# Altium footprint library ES1 Series.PcbLib: 8 footprints
Each footprint in its own frame and in the unit in brackets; x right, y up, seen from the top. Pads: shape width x height; smd on the part's side, far side on the other; paste and mask are expansions set on the pad; w line width, h text height; cw(c..) or ccw(c..) is an arc to the next point about the centre after c.
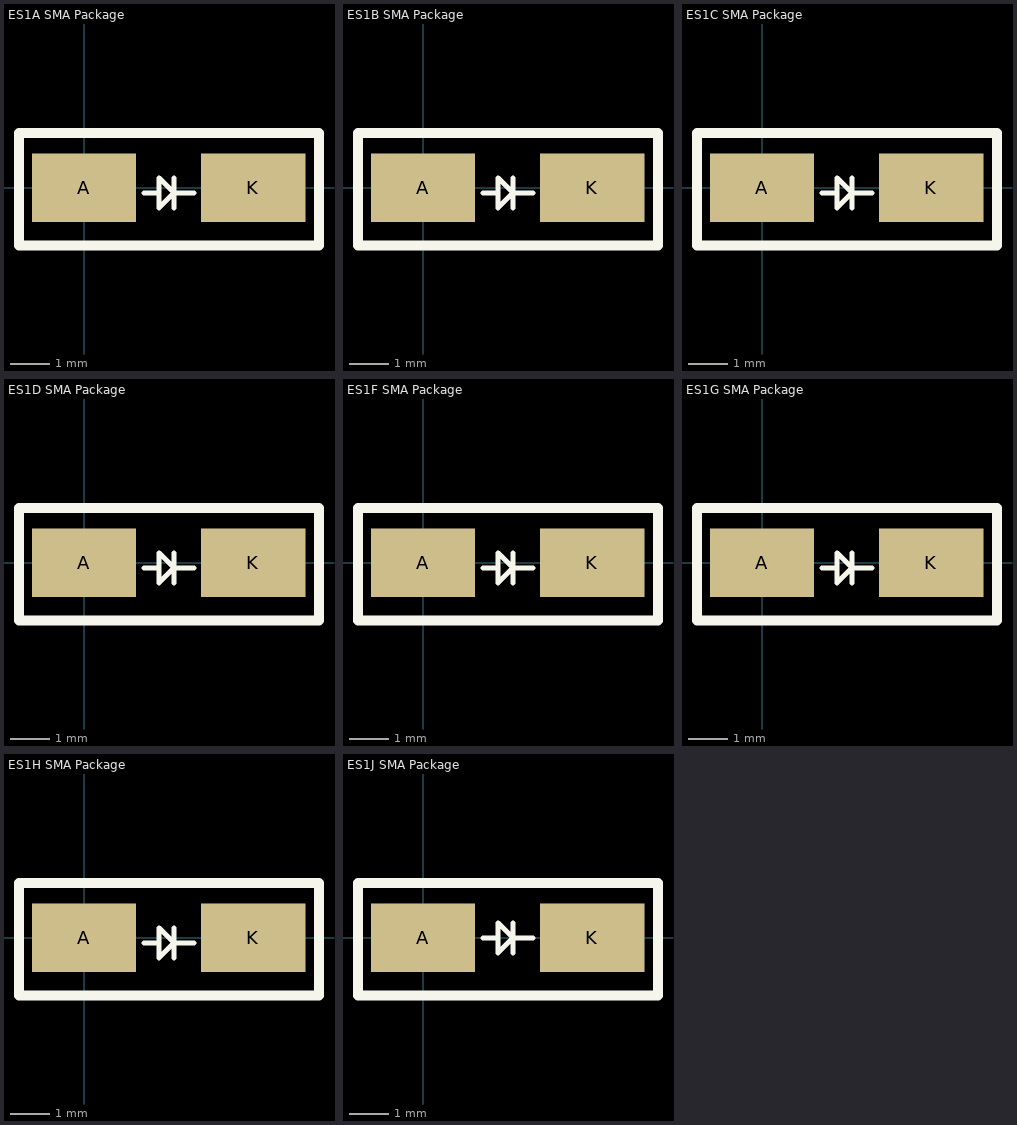
[diagram p0: the footprints below, top view; thin cyan lines are the x and y axes]

## ES1A SMA Package [mm] "Diode Standard 50V 1A Surface Mount SMA (DO-214AC)"
pads (2):
  rect 2.65x1.75 smd: A(0,0) K(4.3,0)
Top Overlay:
  lines w0.127: 1.524,-0.127 1.905,-0.127 ; 2.286,-0.508 2.286,0.254 ; 2.794,-0.127 2.286,-0.127 ; 1.905,-0.127 1.905,0.254 2.286,-0.127 ; 1.905,-0.127 1.905,-0.508 2.286,-0.127
  lines w0.254: -1.651,-1.46 -1.651,1.397 5.969,1.397 5.969,-1.46 -1.651,-1.46
3D body "User Library-DO-214AC SMA.step": height 2.42, standoff 0.01, extent -0.441,-1.3 4.759,1.3

## ES1B SMA Package [mm] "Diode Standard 100V 1A Surface Mount SMA (DO-214AC)"
pads (2):
  rect 2.65x1.75 smd: A(0,0) K(4.3,0)
Top Overlay:
  lines w0.127: 1.524,-0.127 1.905,-0.127 ; 2.286,-0.508 2.286,0.254 ; 2.794,-0.127 2.286,-0.127 ; 1.905,-0.127 1.905,0.254 2.286,-0.127 ; 1.905,-0.127 1.905,-0.508 2.286,-0.127
  lines w0.254: -1.651,-1.46 -1.651,1.397 5.969,1.397 5.969,-1.46 -1.651,-1.46
3D body "User Library-DO-214AC SMA.step": height 2.42, standoff 0.01, extent -0.441,-1.3 4.759,1.3

## ES1C SMA Package [mm] "Diode Standard 150V 1A Surface Mount SMA (DO-214AC)"
pads (2):
  rect 2.65x1.75 smd: A(0,0) K(4.3,0)
Top Overlay:
  lines w0.127: 1.524,-0.127 1.905,-0.127 ; 2.286,-0.508 2.286,0.254 ; 2.794,-0.127 2.286,-0.127 ; 1.905,-0.127 1.905,0.254 2.286,-0.127 ; 1.905,-0.127 1.905,-0.508 2.286,-0.127
  lines w0.254: -1.651,-1.46 -1.651,1.397 5.969,1.397 5.969,-1.46 -1.651,-1.46
3D body "User Library-DO-214AC SMA.step": height 2.42, standoff 0.01, extent -0.441,-1.3 4.759,1.3

## ES1D SMA Package [mm] "Diode Standard 200V 1A Surface Mount SMA (DO-214AC)"
pads (2):
  rect 2.65x1.75 smd: A(0,0) K(4.3,0)
Top Overlay:
  lines w0.127: 1.524,-0.127 1.905,-0.127 ; 2.286,-0.508 2.286,0.254 ; 2.794,-0.127 2.286,-0.127 ; 1.905,-0.127 1.905,0.254 2.286,-0.127 ; 1.905,-0.127 1.905,-0.508 2.286,-0.127
  lines w0.254: -1.651,-1.46 -1.651,1.397 5.969,1.397 5.969,-1.46 -1.651,-1.46
3D body "User Library-DO-214AC SMA.step": height 2.42, standoff 0.01, extent -0.441,-1.3 4.759,1.3

## ES1F SMA Package [mm] "Diode Standard 300V 1A Surface Mount SMA (DO-214AC)"
pads (2):
  rect 2.65x1.75 smd: A(0,0) K(4.3,0)
Top Overlay:
  lines w0.127: 1.524,-0.127 1.905,-0.127 ; 2.286,-0.508 2.286,0.254 ; 2.794,-0.127 2.286,-0.127 ; 1.905,-0.127 1.905,0.254 2.286,-0.127 ; 1.905,-0.127 1.905,-0.508 2.286,-0.127
  lines w0.254: -1.651,-1.46 5.969,-1.46 5.969,1.397 -1.651,1.397 -1.651,-1.46
3D body "User Library-DO-214AC SMA.step": height 2.42, standoff 0.01, extent -0.441,-1.3 4.759,1.3

## ES1G SMA Package [mm] "Diode Standard 400V 1A Surface Mount SMA (DO-214AC)"
pads (2):
  rect 2.65x1.75 smd: A(0,0) K(4.3,0)
Top Overlay:
  lines w0.127: 1.524,-0.127 1.905,-0.127 ; 2.286,-0.508 2.286,0.254 ; 2.794,-0.127 2.286,-0.127 ; 1.905,-0.127 1.905,0.254 2.286,-0.127 ; 1.905,-0.127 1.905,-0.508 2.286,-0.127
  lines w0.254: -1.651,-1.46 5.969,-1.46 5.969,1.397 -1.651,1.397 -1.651,-1.46
3D body "User Library-DO-214AC SMA.step": height 2.42, standoff 0.01, extent -0.441,-1.3 4.759,1.3

## ES1H SMA Package [mm] "Diode Standard 500V 1A Surface Mount SMA (DO-214AC)"
pads (2):
  rect 2.65x1.75 smd: A(0,0) K(4.3,0)
Top Overlay:
  lines w0.127: 1.524,-0.127 1.905,-0.127 ; 2.286,-0.508 2.286,0.254 ; 2.794,-0.127 2.286,-0.127 ; 1.905,-0.127 1.905,0.254 2.286,-0.127 ; 1.905,-0.127 1.905,-0.508 2.286,-0.127
  lines w0.254: -1.651,-1.46 5.969,-1.46 5.969,1.397 -1.651,1.397 -1.651,-1.46
3D body "User Library-DO-214AC SMA.step": height 2.42, standoff 0.01, extent -0.441,-1.3 4.759,1.3

## ES1J SMA Package [mm] "Diode Standard 600V 1A Surface Mount SMA (DO-214AC)"
pads (2):
  rect 2.65x1.75 smd: A(0,0) K(4.3,0)
Top Overlay:
  lines w0.127: 1.524,0 1.905,0 ; 2.286,-0.381 2.286,0.381 ; 2.794,0 2.286,0 ; 1.905,0 1.905,0.381 2.286,0 ; 1.905,0 1.905,-0.381 2.286,0
  lines w0.254: -1.651,-1.46 -1.651,1.397 5.969,1.397 5.969,-1.46 -1.651,-1.46
3D body "User Library-DO-214AC SMA.step": height 2.42, standoff 0.01, extent -0.441,-1.3 4.759,1.3